# Altium schematic symbol library LPEDT_Parts.SchLib: 69 symbols (part 3 of 3)
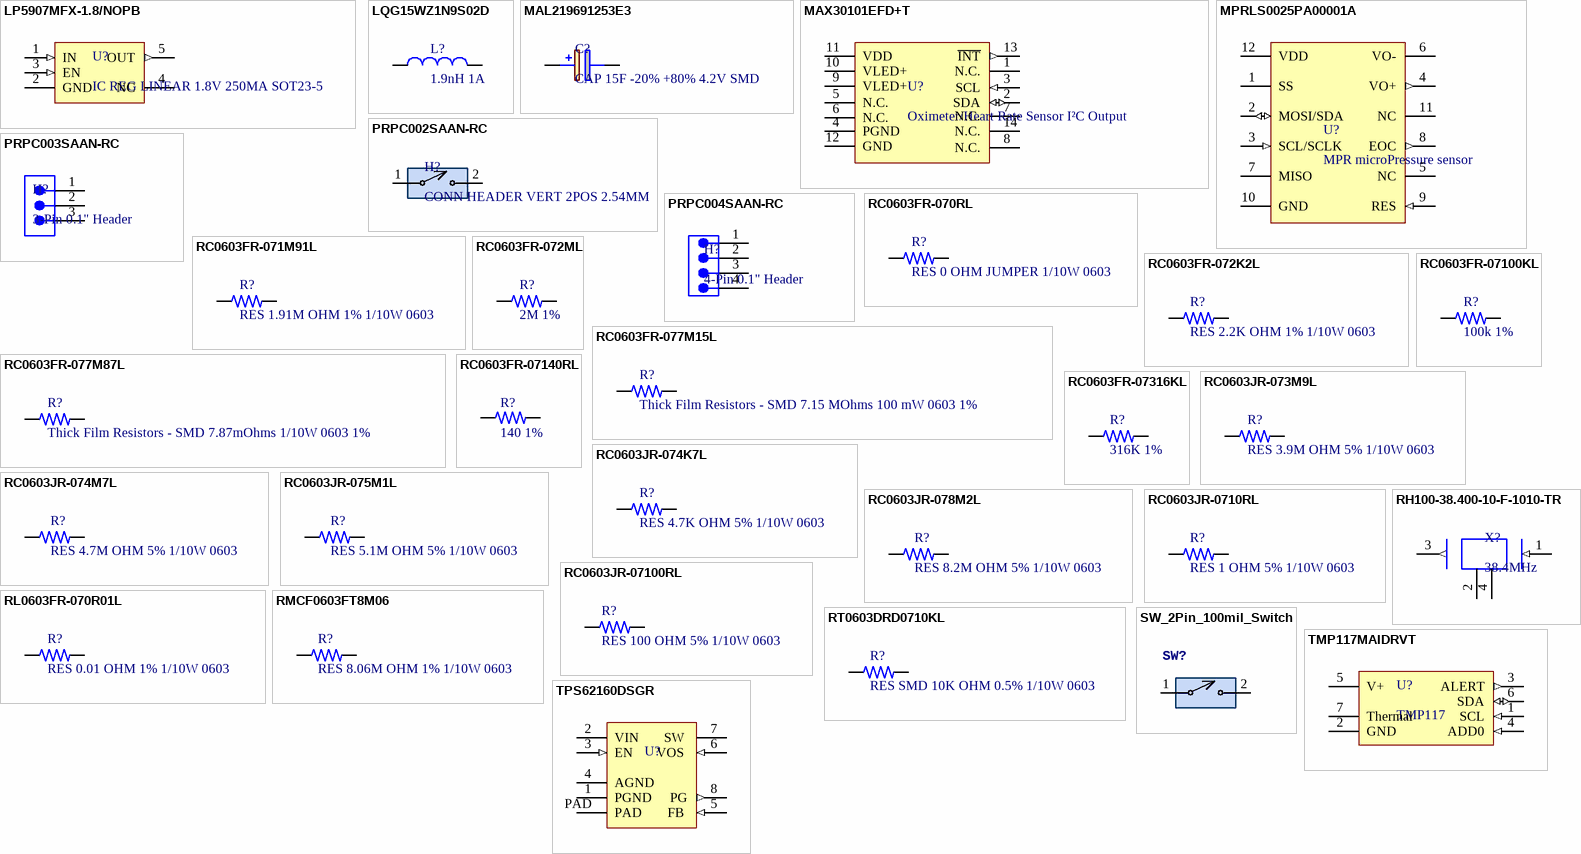
[diagram p3: symbols LP5907MFX-1.8/NOPB to TPS62160DSGR]

## RL0603FR-070R01L
designator R?, comment RES 0.01 OHM 1% 1/10W 0603
Res Thick Film 0603 0.01 Ohm 1% 0.1W(1/10W) ±1500ppm/°C Pad SMD Automotive T/R; Manufacturer: Yageo; Manufacturer Part Number: RL0603FR-070R01L; Value: 10mR; Power Rating: 100mW; Voltage Rating: 50V; Supplier 1: Newark; RoHS: Yes; Category: Chip SMD Resistors; Stock 1: 5000; Pricing 1: 1=0.67000, 25=0.49700, 50=0.35300, 100=0.20900 (USD); Case/Package: 0603; Pins: 2; Case Code (Imperial): 0603; Case Code (Metric): 1608; Contact Plating: Tin,Matte; Weight: 7.1E-05oz; Min Operating Temperature: -55°C; Max Operating Temperature: 125°C; Tolerance: 1%; Voltage Rating (DC): 50V; Packaging: Tape and Reel; Resistor Type: Thick Film; Termination: SMD/SMT; Temperature Coefficient: 1500ppm/°C; Package Quantity: 5000; Features: Moisture Resistant,Automotive AEC-Q200; Series: RL; Max Power Dissipation: 100mW; Number of Terminations: 2; Technology: THICK FILM; Resistance Tolerance: 1%; Construction: Rectangular; Length: 1.6mm; Width: 0.8mm; Height: 0.45mm; Depth: 0.8mm; Lead Pitch: 0.25mm; Ratings: AEC-Q200; Radiation Hardening: No; Military Standard: Not; Lead Free: Lead Free; RoHS Compliant: Yes; ComponentLink1URL: https://datasheet.ciiva.com/15328/pyu-rl-521-rohs-l-5-15328428.pdf?src-supplier=Mouser; ComponentLink1Description: https://datasheet.ciiva.com/15328/pyu-rl-521-rohs-l-5-15328428.pdf?src-supplier=Mouser; ComponentLink2URL: https://datasheet.ciiva.com/7746/877049-7746570.pdf?src-supplier=Element14; ComponentLink2Description: https://datasheet.ciiva.com/7746/877049-7746570.pdf?src-supplier=Element14; ComponentLink3URL: https://datasheet.ciiva.com/7746/877049-7746571.pdf?src-supplier=Element14; ComponentLink3Description: https://datasheet.ciiva.com/7746/877049-7746571.pdf?src-supplier=Element14; ComponentLink4URL: https://datasheet.ciiva.com/8891/pyu-rl-521-rohs-l-5-8891322.pdf?src-supplier=Avnet; ComponentLink4Description: https://datasheet.ciiva.com/8891/pyu-rl-521-rohs-l-5-8891322.pdf?src-supplier=Avnet
footprint RES_0603_1608X06 (Chip Resistor, 2-Leads, Body 1.60x0.80mm, IPC Medium Density)
pins: 1, 2

## RMCF0603FT8M06
designator R?, comment RES 8.06M OHM 1% 1/10W 0603
Res Thick Film 0603 8.06M Ohm 1% 1/10W ±200ppm/°C Molded SMD SMD Paper T/R; Manufacturer: Stackpole Electronics; Manufacturer Part Number: RMCF0603FT8M06; Value: 8.06MR; Supplier 1: Avnet; RoHS: Yes; Category: Chip SMD Resistors; Stock 1: 10000; Pricing 1: 5000=0.00700, 10000=0.00690, 20000=0.00680, 30000=0.00670, 40000=0.00660, 50000=0.00650, 500000=0.00640 (USD); Mounting Technology: Surface Mount; Case/Package: 0603; Contact Plating: Tin,Matte; Min Operating Temperature: -55°C; Max Operating Temperature: 155°C; Packaging: Tape and Reel; Tolerance: 1%; Resistor Type: Thick Film; Temperature Coefficient: 200ppm/°C; Radiation Hardening: No; RoHS Compliant: Yes; ComponentLink1URL: https://www.seielect.com/catalog/SEI-RMCF_RMCP.pdf?src-supplier=Avnet; ComponentLink1Description: https://www.seielect.com/catalog/SEI-RMCF_RMCP.pdf?src-supplier=Avnet; ComponentLink2URL: https://www.seielect.com/catalog/SEI-Packaging.pdf?src-supplier=Digi-Key; ComponentLink2Description: https://www.seielect.com/catalog/SEI-Packaging.pdf?src-supplier=Digi-Key; ComponentLink3URL: https://www.seielect.com/catalog/sei-rmcf_rmcp.pdf?src-supplier=Digi-Key; ComponentLink3Description: https://www.seielect.com/catalog/sei-rmcf_rmcp.pdf?src-supplier=Digi-Key
footprint RES_0603_1608X06 (Chip Resistor, 2-Leads, Body 1.60x0.80mm, IPC Medium Density)
pins: 1, 2

## RT0603DRD0710KL
designator R?, comment RES SMD 10K OHM 0.5% 1/10W 0603
Res Thin Film 0603 10K Ohm 0.5% 1/10W ±25ppm/°C Molded SMD Paper T/R; Manufacturer: Yageo; Manufacturer Part Number: RT0603DRD0710KL; Value: 10kR; Power Rating: 100mW; Voltage Rating (DC): 50V; Supplier 1: Future Electronics; RoHS: Yes; Category: Chip SMD Resistors; Stock 1: 160000; Pricing 1: 5000=0.01490, 15000=0.01440, 25000=0.01420, 100000=0.01350, 150000=0.01310 (USD); Case/Package: 0603; Case Code (Imperial): 0603; Case Code (Metric): 1608; Min Operating Temperature: -55°C; Max Operating Temperature: 155°C; Tolerance: 0.5%; Packaging: Tape and Reel; Resistor Type: Thin Film; Temperature Coefficient: 25ppm/°C; Series: RT; Max Power Dissipation: 100mW; Number of Terminations: 2; Construction: Rectangular; Length: 1.6mm; Width: 800um; Depth: 0.8mm; Military Standard: Not; Lead Free: Lead Free; RoHS Compliant: Yes; ComponentLink1URL: http://www.yageo.com/documents/recent/PYu-RT_1-to-0.01_RoHS_L_9.pdf?src-supplier=Digi-Key; ComponentLink1Description: http://www.yageo.com/documents/recent/PYu-RT_1-to-0.01_RoHS_L_9.pdf?src-supplier=Digi-Key; ComponentLink2URL: http://www.yageo.com/documents/recent/PYu-RT_1-to-0.05_RoHS_L_(4).pdf?src-supplier=Future+Electronics; ComponentLink2Description: http://www.yageo.com/documents/recent/PYu-RT_1-to-0.05_RoHS_L_(4).pdf?src-supplier=Future+Electronics
footprint RES_0603_1608X06 (Chip Resistor, 2-Leads, Body 1.60x0.80mm, IPC Medium Density)
pins: 1, 2

## SW_2Pin_100mil_Switch
designator SW?
2Pin Header; LCSC Part#: C124375; Type: Extended
footprint 2-PIN_MALE_HEADER_01-IN (.025 SQ Post Terminal Strip Assembly, 1x2 Pins, Vertical, 2.54mm Pitch, Male)
pins: 1, 2

## TMP117MAIDRVT
designator U?, comment TMP117
0.1C digital temperature sensor, 48-bit EEPROM, PT100/PT1000 RTD replacement 6-WSON 0 to 85; Manufacturer: Texas Instruments; Manufacturer Part Number: TMP117MAIDRVT; Output Type: I2C; Resolution: 16b; Supplier 1: Arrow Electronics; RoHS: Yes; Category: Integrated Circuits (ICs); Stock 1: 833; Pricing 1: 1=5.04400, 10=3.92300, 25=3.16500, 100=2.70300, 250=2.56100, 500=2.22300 (USD); Mounting Technology: Surface Mount; Min Operating Temperature: -55°C; Max Operating Temperature: 150°C; Packaging: Tape and Reel; RoHS Compliant: Yes; ComponentLink1URL: http://www.ti.com/lit/ds/symlink/tmp117.pdf?src-supplier=Digi-Key; ComponentLink1Description: http://www.ti.com/lit/ds/symlink/tmp117.pdf?src-supplier=Digi-Key
footprint 6-DFN-2x2 (Temperature Sensor Digital, Local 0°C ~ 85°C 16 b 6-WSON (2x2))
pins: 1 SCL (in) "Serial clock.", 2 GND "Ground.", 3 ALERT (out) "Over temperature alert or data-ready signal. This open-drain output requires a pullup resistor.", 4 ADD0 (in) "Address select. Connect to GND, V+, SDA, or SCL.", 5 V+ (power) "Supply voltage.", 6 SDA (io) "Serial data input and open-drain output. Requires a pullup resistor.", 7 Thermal

## TPS62160DSGR
designator U?  (value not drawn)
Conv DC-DC 3V to 17V Synchronous Step Down Single-Out 0.9V to 6V 1A 8-Pin WSON EP T/R; Manufacturer: Texas Instruments; Number of Outputs: 1; Min Output Voltage: 900mV; Switching Frequency: 2.25MHz; Synchronous Rectifier: Yes; Quiescent Current: 17uA; Output Type: Adjustable; Output Configuration: Positive; Supplier 1: Digi-Key; Manufacturer Part Number: TPS62160DSGR; RoHS: Yes; Category: Voltage Regulators - Switching; Stock 1: 1619; Pricing 1: 1=1.70000, 10=1.51800, 25=1.44080, 100=1.18340, 250=1.10624, 500=0.97760, 1000=0.77179 (USD); Case/Package: SOIC; Pins: 8; Contact Plating: Gold; Min Operating Temperature: -40°C; Max Operating Temperature: 125°C; Packaging: Tape and Reel; Package Quantity: 3000; Series: DCS-Control™; Output Current: 1A; Output Voltage: 6V; Max Output current: 1A; Max Supply Voltage: 17V; Min Input Voltage: 3V; Max Output Voltage: 6V; Operating Supply Voltage: 17V; Radiation Hardening: No; RoHS Compliant: Yes; Reach SVHC Compliant: Yes; Lead Free: Lead Free; ComponentLink1URL: https://datasheet.ciiva.com/2026/tps62161-2026049.pdf?src-supplier=Digi-Key; ComponentLink1Description: https://datasheet.ciiva.com/2026/tps62161-2026049.pdf?src-supplier=Digi-Key; ComponentLink2URL: https://datasheet.ciiva.com/2026/tps62160-2026414.pdf?src-supplier=Digi-Key; ComponentLink2Description: https://datasheet.ciiva.com/2026/tps62160-2026414.pdf?src-supplier=Digi-Key; ComponentLink3URL: https://datasheet.ciiva.com/2026/tps62160-2026415.pdf?src-supplier=Digi-Key; ComponentLink3Description: https://datasheet.ciiva.com/2026/tps62160-2026415.pdf?src-supplier=Digi-Key
footprint 8-DFN_2x2 (DFN, 8-Leads, Body 2.00x2.00mm, Pitch 0.50mm, Thermal Pad 1.60x0.69mm, IPC Medium Density)
pins: 1 PGND  (power) "Power ground", 2 VIN  (power) "Supply voltage", 3 EN  (in) "Enable input (High = enabled, Low = disabled)", 4 AGND  (power) "Analog ground", 5 FB  (in) "Voltage feedback of adjustable version. Connect resistive voltage divider to this pin. It is recommended to connect FB to AGND on fixed output voltage versions for improved thermal performance.", 6 VOS  (in) "Output voltage sense pin and connection for the control loop circuitry.", 7 SW  (power) "Switch node, which is connected to the internal MOSFET switches. Connect inductor between SW and output capacitor.", 8 PG (out) "Output power good (High = VOUT ready, Low = VOUT below nominal regulation); open drain (requires pull-up resistor; goes high impedance, when device is switched off)", PAD (power) "Must be connected to AGND. Must be soldered to achieve appropriate power dissipation and mechanical reliability."